# Altium schematic symbol library TK5 DIFF ANT.Schlib: 1 symbol
Pins are listed as number, name and electrical type; pins without a type are passive.

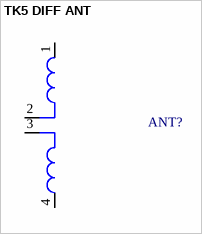
[diagram p0: symbol TK5 DIFF ANT]

## TK5 DIFF ANT
designator ANT?
pins: 1, 2, 3, 4